# EAGLE library part ESP32-C3_SUPERMINI_SMD (library ESP32-C3_SUPERMINI_SMD)
Check availability <https://pricing.snapeda.com/parts/ESP32-C3%20SuperMini_SMD/Espressif%20Systems/view-part?ref=eda>
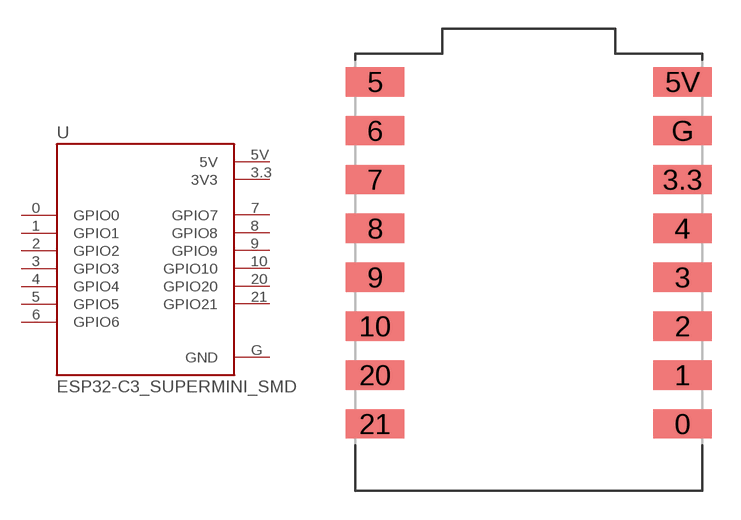
[diagram p0: symbol with the pads of MODULE_ESP32-C3_SUPERMINI; footprint MODULE_ESP32-C3_SUPERMINI]

Designator prefix U

## ESP32-C3_SUPERMINI_SMD (Availability: Not in stock; Check_prices: https://www.snapeda.com/parts/ESP32-C3%20SuperMini_SMD/Espressif+Systems/view-part/?ref=eda; Description: Super tiny ESP32-C3 board; MF: Espressif Systems; MP: ESP32-C3 SuperMini_SMD; Package: None; Price: None; SnapEDA_Link: https://www.snapeda.com/parts/ESP32-C3%20SuperMini_SMD/Espressif+Systems/view-part/?ref=snap)  [MODULE_ESP32-C3_SUPERMINI]
0  GPIO0
1  GPIO1
2  GPIO2
3  GPIO3
3.3  3V3  pwr
4  GPIO4
5  GPIO5
5V  5V  pwr
6  GPIO6
7  GPIO7
8  GPIO8
9  GPIO9
10  GPIO10
20  GPIO20
21  GPIO21
G  GND  pwr

## Footprint MODULE_ESP32-C3_SUPERMINI (pad centres in mm)
smd 3.025 x 1.524: 0 7.985,-7.88; 1 7.985,-5.34; 2 7.985,-2.8; 3 7.985,-0.26; 3.3 7.985,4.82; 4 7.985,2.28; 5 -7.985,9.9; 5V 7.985,9.9; 6 -7.985,7.36; 7 -7.985,4.82; 8 -7.985,2.28; 9 -7.985,-0.26; 10 -7.985,-2.8; 20 -7.985,-5.34; 21 -7.985,-7.88; G 7.985,7.36